# Altium footprint library PCV1J330MCL1GS.PcbLib: 1 footprints
Each footprint in its own frame and in the unit in brackets; x right, y up, seen from the top. Pads: shape width x height; smd on the part's side, far side on the other; paste and mask are expansions set on the pad; w line width, h text height; cw(c..) or ccw(c..) is an arc to the next point about the centre after c.
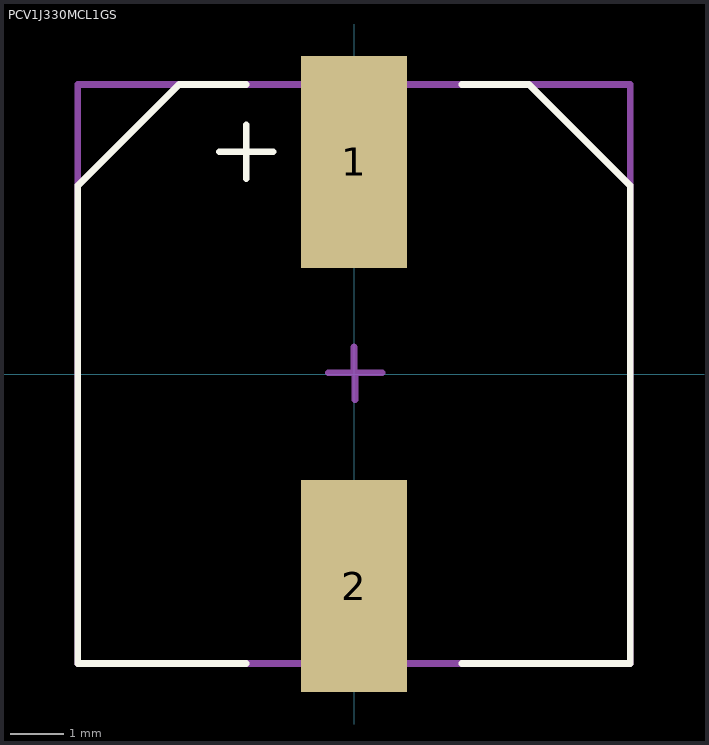
[diagram p0: the footprint, top view; thin cyan lines are the x and y axes]

## PCV1J330MCL1GS [mm]
pads (2):
  rect 2x4 smd mask+0.051: 1(0,4) 2(0,-4)
Top Overlay:
  lines w0.127: -2.54,4.191 -1.524,4.191 ; -2.032,-5.461 -5.207,-5.461 -5.207,3.556 -3.302,5.461 -2.032,5.461 ; -2.032,3.683 -2.032,4.699 ; 2.032,-5.461 5.207,-5.461 5.207,3.556 3.302,5.461 2.032,5.461
Mechanical 13:
  lines w0.127: -5.207,-5.461 5.207,-5.461 5.207,5.461 -5.207,5.461 -5.207,-5.461
Mechanical 15:
  lines w0.127: -0.482,0.023 0.026,0.023 ; 0,0 0,0.508 ; 0.02,-0.485 0.02,0.023 0.528,0.023
3D body "10x10_Chip.stp": height 9.98, standoff -0.02, extent -5.15,-5.45 5.15,5.45